# Altium schematic symbol library SolderJumper20mil.SchLib: 2 symbols
Pins are listed as number, name and electrical type; pins without a type are passive.

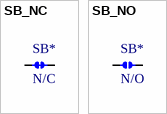
[diagram p0: symbols SB_NC to SB_NO]

## SB_NC
designator SB*, comment N/C  (no BOM)
Solder Bridge, Normally Closed
footprint SB_NC (Solder Bridge, Normally Closed)
pins: 1, 2

## SB_NO
designator SB*, comment N/O  (no BOM)
Solder Bridge, Normally Open
footprint SB_NO (Solder Bridge, Normally Open)
footprint SB_ARROW_NC (Solder Bridge Arrow, Normally Open)
pins: 1, 2